# EAGLE library part STM32-BLUE-PILL (library Modules)
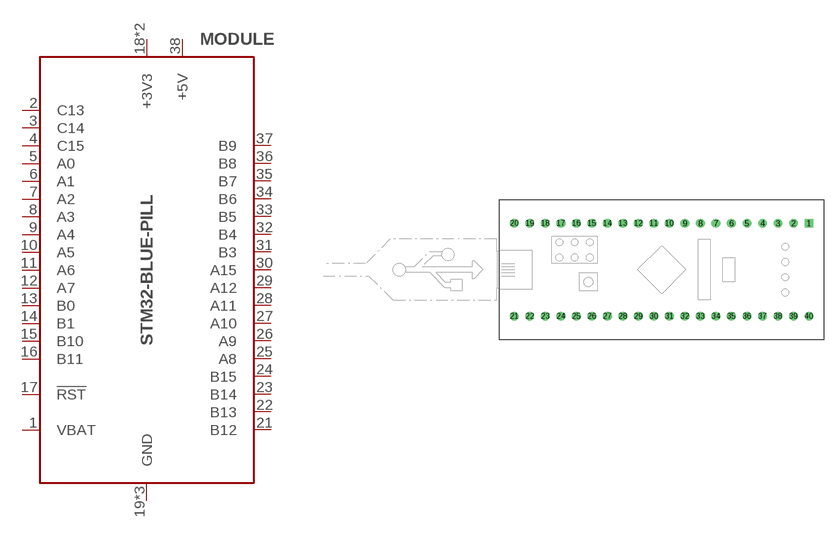
[diagram p0: symbol with the pads of STM32-BLUE-PILL; footprint STM32-BLUE-PILL]

Designator prefix MODULE

## STM32-BLUE-PILLDIL40-W  [STM32-BLUE-PILL]
1  VBAT  pwr
2  C13
3  C14
4  C15
5  A0
6  A1
7  A2
8  A3
9  A4
10  A5
11  A6
12  A7
13  B0
14  B1
15  B10
16  B11
17  !RST  oc
18  +3V3  pwr
19  GND  pwr
20  GND  pwr
21  B12
22  B13
23  B14
24  B15
25  A8
26  A9
27  A10
28  A11
29  A12
30  A15
31  B3
32  B4
33  B5
34  B6
35  B7
36  B8
37  B9
38  +5V  pwr
39  GND  pwr
40  +3V3  pwr

## Footprint STM32-BLUE-PILL (pad centres in mm)
drill 0.9 square: 1 24.13,7.62
drill 0.9: 2 21.59,7.62; 3 19.05,7.62; 4 16.51,7.62; 5 13.97,7.62; 6 11.43,7.62; 7 8.89,7.62; 8 6.35,7.62; 9 3.81,7.62; 10 1.27,7.62; 11 -1.27,7.62; 12 -3.81,7.62; 13 -6.35,7.62; 14 -8.89,7.62; 15 -11.43,7.62; 16 -13.97,7.62; 17 -16.51,7.62; 18 -19.05,7.62; 19 -21.59,7.62; 20 -24.13,7.62; 21 -24.13,-7.62; 22 -21.59,-7.62; 23 -19.05,-7.62; 24 -16.51,-7.62; 25 -13.97,-7.62; 26 -11.43,-7.62; 27 -8.89,-7.62; 28 -6.35,-7.62; 29 -3.81,-7.62; 30 -1.27,-7.62; 31 1.27,-7.62; 32 3.81,-7.62; 33 6.35,-7.62; 34 8.89,-7.62; 35 11.43,-7.62; 36 13.97,-7.62; 37 16.51,-7.62; 38 19.05,-7.62; 39 21.59,-7.62; 40 24.13,-7.62